# Altium footprint library STM32F1_CNC_HW.PcbLib: 43 footprints (part 2 of 3)
Each footprint in its own frame and in the unit in brackets; x right, y up, seen from the top. Pads: shape width x height; smd on the part's side, far side on the other; paste and mask are expansions set on the pad; w line width, h text height; cw(c..) or ccw(c..) is an arc to the next point about the centre after c.
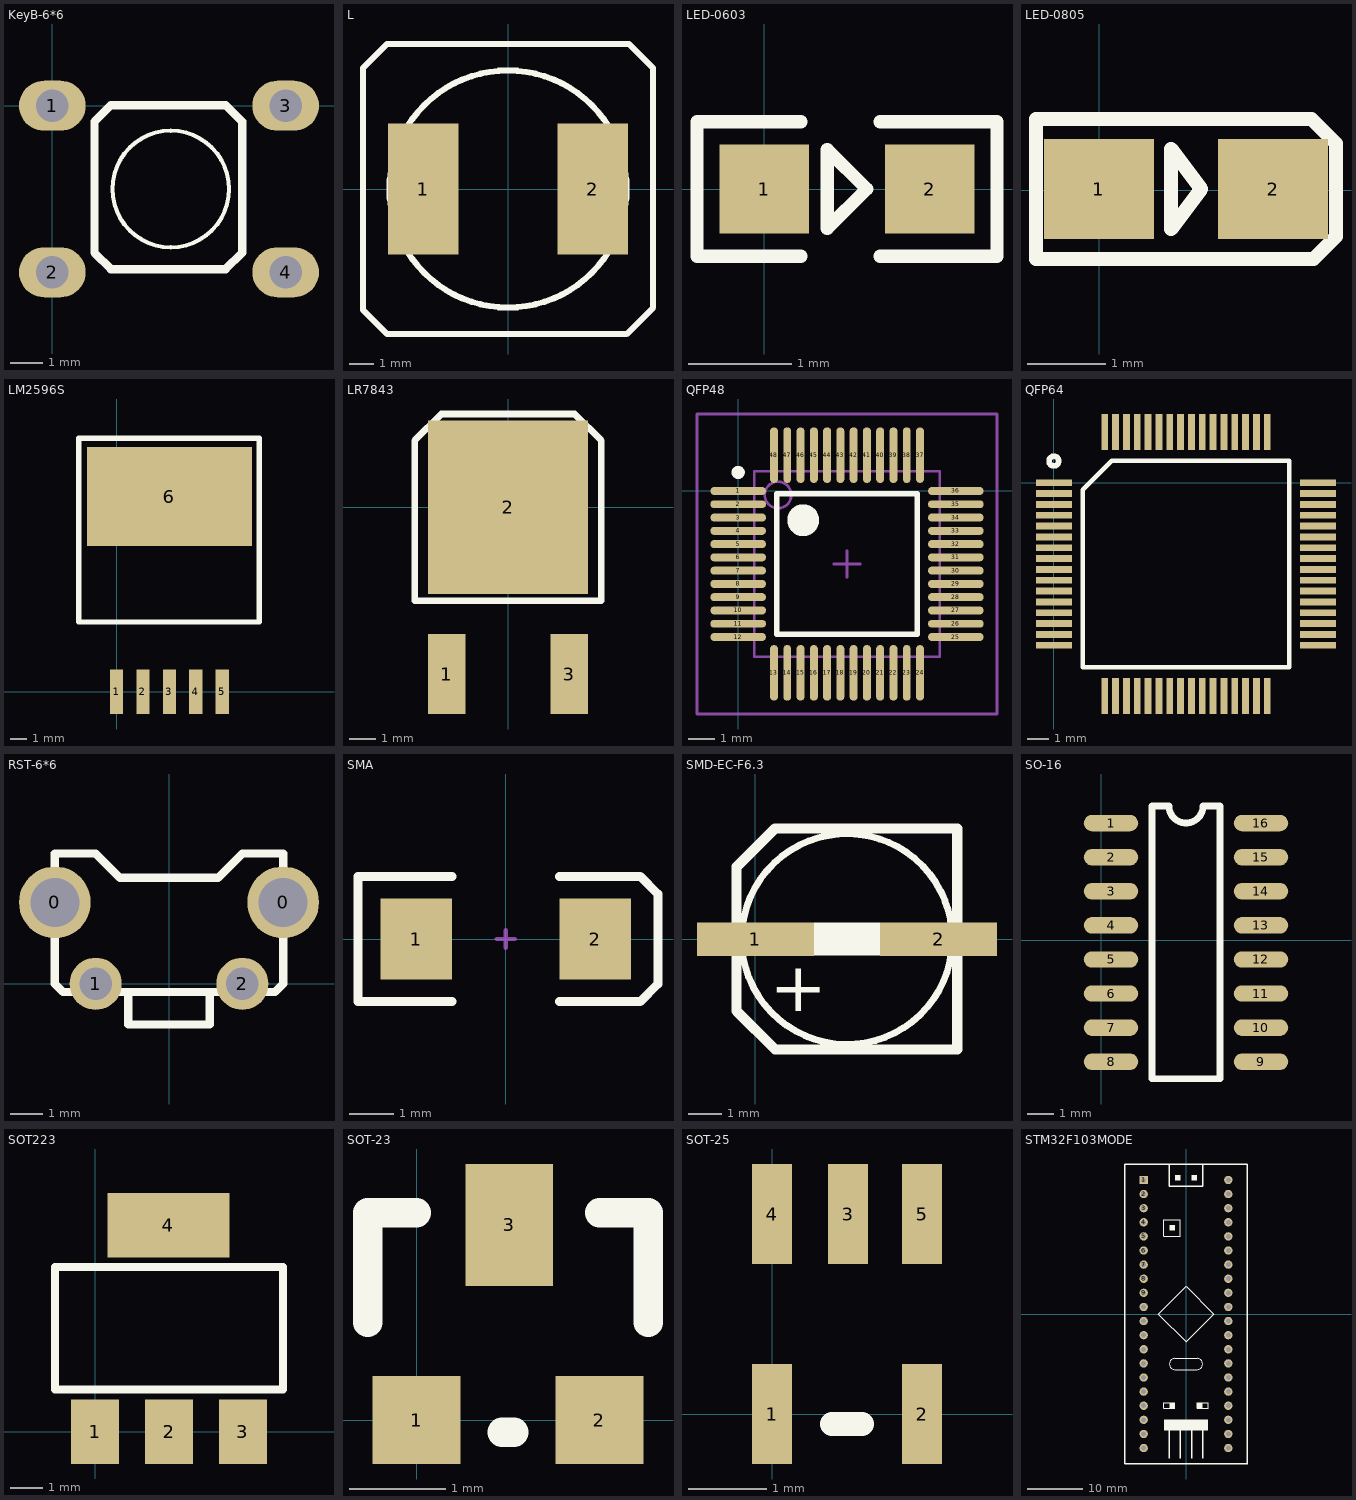
[diagram p1: the footprints below, top view; thin cyan lines are the x and y axes]

## KeyB-6*6 [mil] "KeyB-6*6*5mm"
height 196.85
pads (4):
  oval 80x60 hole 39.37: 1(0,0) 2(0,-200) 3(280,0) 4(280,-200)
Top Overlay:
  circle w5: c142.13,-100 r70
  lines w10: 70.24,-196.22 50.55,-176.54 50.55,-19.06 70.24,0.63 208.03,0.63 227.72,-19.06 227.72,-176.54 208.03,-196.22 70.24,-196.22 ; 70.24,-196.22 70.24,-196.22

## L [mm] "12*12*7"
height 7
pads (2):
  rect 2.9x5.4 smd: 1(-3.5,0) 2(3.5,0)
Top Overlay:
  circle w0.254: c0,0 r4.9
  lines w0.254: -6,-5 -5,-6 4.9,-6 6,-4.9 6,5 5,6 -5,6 -6,5 -6,-5

## LED-0603 [mil]
pads (2):
  rect 34x34 smd: 1(0,0) 2(63,0)
Top Overlay:
  lines w5: 14,-25.59 -25.59,-25.59 -25.59,25.59 14,25.59 ; 44,-25.59 88.58,-25.59 88.58,25.59 44,25.59 ; 24,-15 39,0 24,15 24,-15

## LED-0805 [mm] "LED-0805"
pads (2):
  rect 1.4x1.27 smd: 1(-0.003,0.013) 2(2.207,0.013)
Top Overlay:
  lines w0.178: -0.803,-0.876 2.724,-0.876 3.007,-0.593 3.007,0.593 2.698,0.902 -0.803,0.902 -0.803,0.013 -0.803,-0.876 ; 0.913,-0.495 1.294,0.013 0.913,0.521 0.913,-0.495

## LM2596S [mm]
pads (6):
  rect 0.8x2.7 smd: 1(0,0) 2(1.6,0) 3(3.2,0) 4(4.8,0) 5(6.4,0)
  rect 10x6 smd: 6(3.2,11.8)
Top Overlay:
  lines w0.305: -2.286,4.208 8.636,4.208 8.636,15.333 -2.286,15.333 -2.286,4.208
Bottom Paste:
  lines w0.254: -1.8,4.25 -1.8,8.55 8.2,8.55 8.2,4.25 -1.8,4.25

## LR7843 [mm] "TO-252"
pads (3):
  rect 1.4x3 smd: 1(-2.3,-6.25) 3(2.3,-6.25)
  rect 6x6.5 smd: 2(0,0)
Top Overlay:
  lines w0.254: -3.5,-3.5 -3.5,2.5 -2.5,3.5 2.5,3.5 3.5,2.5 3.5,-3.5 -3.5,-3.5

## QFP48 [mm]
pads (48):
  oval 2.1x0.3 smd: 1(0,0) 2(0,-0.5) 3(0,-1) 4(0,-1.5) 5(0,-2) 6(0,-2.5) 7(0,-3) 8(0,-3.5) 9(0,-4) 10(0,-4.5) 11(0,-5) 12(0,-5.5) 25(8.2,-5.5) 26(8.2,-5) 27(8.2,-4.5) 28(8.2,-4) 29(8.2,-3.5) 30(8.2,-3) 31(8.2,-2.5) 32(8.2,-2) 33(8.2,-1.5) 34(8.2,-1) 35(8.2,-0.5) 36(8.2,0)
  oval 0.3x2.1 smd: 13(1.35,-6.85) 14(1.85,-6.85) 15(2.35,-6.85) 16(2.85,-6.85) 17(3.35,-6.85) 18(3.85,-6.85) 19(4.35,-6.85) 20(4.85,-6.85) 21(5.35,-6.85) 22(5.85,-6.85) 23(6.35,-6.85) 24(6.85,-6.85) 37(6.85,1.35) 38(6.35,1.35) 39(5.85,1.35) 40(5.35,1.35) 41(4.85,1.35) 42(4.35,1.35) 43(3.85,1.35) 44(3.35,1.35) 45(2.85,1.35) 46(2.35,1.35) 47(1.85,1.35) 48(1.35,1.35)
Top Overlay:
  circle w0.25: c0,0.7 r0.125
  circle w0.6: c2.45,-1.1 r0.3
  lines w0.2: 1.45,-5.4 1.45,-0.1 6.75,-0.1 6.75,-5.4 1.45,-5.4
Mechanical 13:
  circle w0.1: c1.5,-0.15 r0.5
  lines w0.1: 0.6,-6.25 0.6,0.75 7.6,0.75 7.6,-6.25 0.6,-6.25
Mechanical 15:
  lines w0.1: 3.6,-2.75 4.6,-2.75 ; 4.1,-3.25 4.1,-2.25 ; -1.55,-8.4 -1.55,2.9 9.75,2.9 9.75,-8.4 -1.55,-8.4
3D body: height 1.6, standoff 0, extent 0.6,-6.25 7.6,0.75

## QFP64 [mm]
pads (64):
  rect 1.651x0.32 smd: 1(0,0) 2(0,-0.5) 3(0,-1) 4(0,-1.5) 5(0,-2) 6(0,-2.5) 7(0,-3) 8(0,-3.5) 9(0,-4) 10(0,-4.5) 11(0,-5) 12(0,-5.5) 13(0,-6) 14(0,-6.5) 15(0,-7) 16(0,-7.5) 33(12.2,-7.5) 34(12.2,-7) 35(12.2,-6.5) 36(12.2,-6) 37(12.2,-5.5) 38(12.2,-5) 39(12.2,-4.5) 40(12.2,-4) 41(12.2,-3.5) 42(12.2,-3) 43(12.2,-2.5) 44(12.2,-2) 45(12.2,-1.5) 46(12.2,-1) 47(12.2,-0.5) 48(12.2,0)
  rect 0.32x1.651 smd: 17(2.35,-9.85) 18(2.85,-9.85) 19(3.35,-9.85) 20(3.85,-9.85) 21(4.35,-9.85) 22(4.85,-9.85) 23(5.35,-9.85) 24(5.85,-9.85) 25(6.35,-9.85) 26(6.85,-9.85) 27(7.35,-9.85) 28(7.85,-9.85) 29(8.35,-9.85) 30(8.85,-9.85) 31(9.35,-9.85) 32(9.85,-9.85) 49(9.85,2.35) 50(9.35,2.35) 51(8.85,2.35) 52(8.35,2.35) 53(7.85,2.35) 54(7.35,2.35) 55(6.85,2.35) 56(6.35,2.35) 57(5.85,2.35) 58(5.35,2.35) 59(4.85,2.35) 60(4.35,2.35) 61(3.85,2.35) 62(3.35,2.35) 63(2.85,2.35) 64(2.35,2.35)
Top Overlay:
  circle w0.254: c0,1 r0.224
  lines w0.2: 1.335,-8.515 10.865,-8.515 10.865,1.015 2.67,1.015 1.335,-0.32 1.335,-8.515

## RST-6*6 [mm] "侧按按键-6*6mm"
pads (4):
  round 2.2 hole 1.5: 0(-3.5,2.5) 0(3.5,2.5)
  round 1.6 hole 1: 1(-2.25,0) 2(2.25,0)
Top Layer:
  lines w0.254: 3.5,2.5 3.5,2.5
Top Overlay:
  lines w0.254: -1.25,-0.25 -1.25,-1.25 1.25,-1.25 1.25,-0.25 ; -3.5,0 -3.5,4 -2.25,4 -1.5,3.25 1.5,3.25 2.25,4 3.5,4 3.5,0 3.25,-0.25 -3.25,-0.25 -3.5,0

## SMA [mm] "DO-214-AA/SMA; 2 C-Bend Leads; Body 5.3 x 2.8 mm, inc. leads (LxW)"
height 2.54
pads (2):
  rect 1.6x1.8 smd: 1(-2,0) 2(2,0)
Top Overlay:
  lines w0.2: -1.2,-1.4 -3.3,-1.4 -3.3,1.4 -1.2,1.4 ; 1.2,-1.4 3,-1.4 3.4,-1 3.4,1 3,1.4 1.2,1.4
Mechanical 1:
  lines w0.1: -0.2,0 0.2,0 ; 0,-0.2 0,0.2

## SMD-EC-F6.3 [mm]
pads (2):
  rect 3.5x1 smd: 1(0,0) 2(5.475,0)
Top Overlay:
  rectangle: 1.746,-0.496 3.73,0.5
  lines w0.203: 5.667,1.156 ccw(c2.736,0.002) 5.667,1.154
  lines w0.305: 0.587,-3.303 -0.564,-2.152 -0.564,2.163 0.587,3.314 ; 0.589,-3.305 6.036,-3.305 6.036,3.309 0.592,3.309
  text "+" at 0.43,-2.164 h1.5

## SO-16 [mil]
pads (16):
  oval 80x24 smd: 1(14,172) 2(14,122) 3(14,72) 4(14,22) 5(14,-28) 6(14,-78) 7(14,-128) 8(14,-178) 9(234,-178) 10(234,-128) 11(234,-78) 12(234,-28) 13(234,22) 14(234,72) 15(234,122) 16(234,172)
Top Overlay:
  lines w10: 74,-203 74,197 99,197 ccw(c124,197) 149,197 174,197 174,-203 74,-203

## SOT223 [mil]
pads (4):
  rect 59x79 smd: 1(0,0) 2(90.55,0) 3(181.1,0)
  rect 150x79 smd: 4(89.88,253.54)
Top Overlay:
  lines w10: -49.45,52 -49.45,202 230.55,202 230.55,52 -49.45,52

## SOT-23 [mil]
pads (3):
  rect 36x36 smd: 1(0,0) 2(75,0)
  rect 36x50 smd: 3(38,80)
Top Overlay:
  lines w12: -20,40 -20,85 0,85 ; 35,-5 40,-5 ; 75,85 95,85 95,40

## SOT-25 [mil]
pads (5):
  rect 20x50 smd: 1(0,0) 2(75,0) 3(38,100) 4(0,100) 5(75,100)
Top Overlay:
  lines w12: 30,-5 45,-5

## STM32F103MODE [mm]
pads (40):
  rect 1.5x1.5 hole 0.9: 1(-7.62,24.13)
  round 1.5 hole 0.9: 2(-7.62,21.59) 3(-7.62,19.05) 4(-7.62,16.51) 5(-7.62,13.97) 6(-7.62,11.43) 7(-7.62,8.89) 8(-7.62,6.35) 9(-7.62,3.81) 10(-7.62,1.27) 11(-7.62,-1.27) 12(-7.62,-3.81) 13(-7.62,-6.35) 14(-7.62,-8.89) 15(-7.62,-11.43) 16(-7.62,-13.97) 17(-7.62,-16.51) 18(-7.62,-19.05) 19(-7.62,-21.59) 20(-7.62,-24.13) 21(7.62,24.13) 22(7.62,21.59) 23(7.62,19.05) 24(7.62,16.51) 25(7.62,13.97) 26(7.62,11.43) 27(7.62,8.89) 28(7.62,6.35) 29(7.62,3.81) 30(7.62,1.27) 31(7.62,-1.27) 32(7.62,-3.81) 33(7.62,-6.35) 34(7.62,-8.89) 35(7.62,-11.43) 36(7.62,-13.97) 37(7.62,-16.51) 38(7.62,-19.05) 39(7.62,-21.59) 40(7.62,-24.13)
Top Overlay:
  rectangle: -4,-21 4,-19
  rectangle: 1,24 2,25
  rectangle: -2,24 -1,25
  rectangle: -3,15 -2,16
  rectangle: -3,-17 -2,-16
  rectangle: 2,-17 3,-16
  lines w0.127: -4,-17 -2,-17 -2,-16 ; -4,-17 -4,-17 ; -4,-17 -4,-16 ; -4,-16 -4,-16 ; -4,-16 -2,-16 ; -2,-16 -2,-16 ; 2,-17 4,-17 4,-16 2,-16 ; 2,-17 2,-17 ; 2,-17 2,-16 ; 2,-16 2,-16 ; -5,0 0,-5 5,0 0,5 -5,0 ; -4,14 -1,14 -1,17 -4,17 -4,14 ; -2,-10 cw(c-2,-9) -2,-8 2,-8 cw(c2,-9) 2,-10 -2,-10
  lines w0.254: -3,-26 -3,-21 ; -3,27 -3,23 3,23 3,27 ; -1,-26 -1,-21 ; 1,-26 1,-21 ; 3,-26 3,-21 ; -11,-27 -11,27 11,27 11,-27 -11,-27